# EAGLE library part ARJ11E-MCSA-A-B-EM2 (library SamacSys_Parts)
Modular Connectors / Ethernet Connectors IEEE 802.3ab RJ45 0C to +70C Source: Datasheet <https://abracon.com/Magnetics/lan/ARJ11E.pdf>
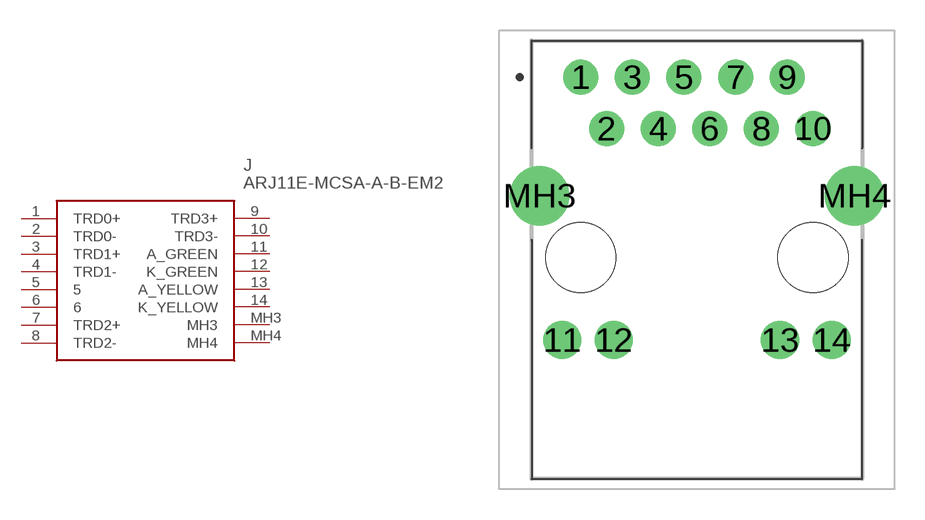
[diagram p12: symbol with the pads of ARJ11EMCSAABEM2; footprint ARJ11EMCSAABEM2]

Designator prefix J

## ARJ11E-MCSA-A-B-EM2 (DESCRIPTION: Modular Connectors / Ethernet Connectors IEEE 802.3ab RJ45 0C to +70C; HEIGHT: 13.84mm; MANUFACTURER_NAME: ABRACON; MANUFACTURER_PART_NUMBER: ARJ11E-MCSA-A-B-EM2; MOUSER_PART_NUMBER: 815-RJ11EMCSAABEM2; MOUSER_PRICE-STOCK: https://www.mouser.co.uk/ProductDetail/ABRACON/ARJ11E-MCSA-A-B-EM2?qs=9El6XYSTRlGgZbfj7vHoIQ%3D%3D)  [ARJ11EMCSAABEM2]
1  TRD0+
2  TRD0-
3  TRD1+
4  TRD1-
5  5
6  6
7  TRD2+
8  TRD2-
9  TRD3+
10  TRD3-
11  A_GREEN
12  K_GREEN
13  A_YELLOW
14  K_YELLOW
MH3  MH3
MH4  MH4

## Footprint ARJ11EMCSAABEM2 (pad centres in mm)
ARJ11E-MCSA-A-B-EM2-3
drill 1.15 pad 1.725: 1 0,0; 2 1.27,-2.54; 3 2.54,0; 4 3.81,-2.54; 5 5.08,0; 6 6.35,-2.54; 7 7.62,0; 8 8.89,-2.54; 9 10.16,0; 10 11.43,-2.54
drill 1.25 pad 1.875: 11 -0.915,-12.95; 12 1.625,-12.95; 13 9.805,-12.95; 14 12.345,-12.95
drill 1.95 pad 2.925: MH3 -2.035,-5.84; MH4 13.465,-5.84
hole 3.45 at 0,-8.89
hole 3.45 at 11.43,-8.89